# Altium footprint library ICs_AnalogSwitches.PcbLib: 1 footprints
Each footprint in its own frame and in the unit in brackets; x right, y up, seen from the top. Pads: shape width x height; smd on the part's side, far side on the other; paste and mask are expansions set on the pad; w line width, h text height; cw(c..) or ccw(c..) is an arc to the next point about the centre after c.
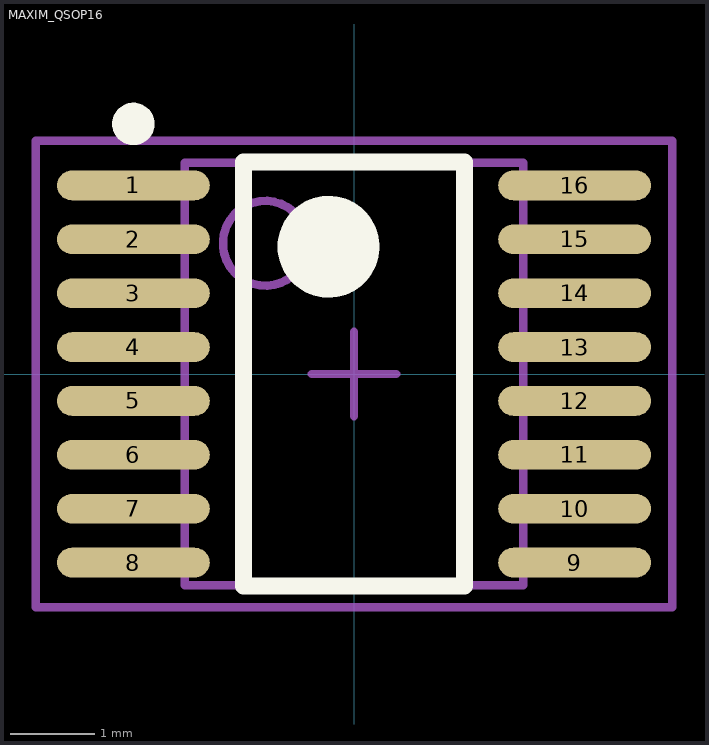
[diagram p0: the footprint, top view; thin cyan lines are the x and y axes]

## MAXIM_QSOP16 [mm] "SOP, 16-Leads, Body 5.0x4.0mm (max), Pitch 0.63mm, IPC Medium Density"
height 1.73
pads (16):
  oval 1.8x0.35 smd mask+0.076: 1(-2.6,2.222) 2(-2.6,1.587) 3(-2.6,0.953) 4(-2.6,0.318) 5(-2.6,-0.318) 6(-2.6,-0.953) 7(-2.6,-1.587) 8(-2.6,-2.222) 9(2.6,-2.222) 10(2.6,-1.587) 11(2.6,-0.953) 12(2.6,-0.318) 13(2.6,0.318) 14(2.6,0.953) 15(2.6,1.587) 16(2.6,2.222)
Top Overlay:
  circle w0.6: c-0.3,1.5 r0.3
  circle w0.25: c-2.6,2.947 r0.125
  lines w0.2: -1.3,-2.5 1.3,-2.5 1.3,2.5 -1.3,2.5 -1.3,-2.5
Mechanical 13:
  circle w0.1: c-1.045,1.54 r0.5
  lines w0.1: -1.995,-2.49 1.995,-2.49 1.995,2.49 -1.995,2.49 -1.995,-2.49
Mechanical 15:
  lines w0.1: -0.5,0 0.5,0 ; 0,-0.5 0,0.5 ; -3.75,-2.75 3.75,-2.75 3.75,2.75 -3.75,2.75 -3.75,-2.75
3D body: height 1.76, standoff -0.01, extent -3.01,-2.49 3.01,2.49